# Altium footprint library CapacitoresIntiSat.PCBLIB: 196 footprints (part 2 of 13)
Each footprint in its own frame and in the unit in brackets; x right, y up, seen from the top. Pads: shape width x height; smd on the part's side, far side on the other; paste and mask are expansions set on the pad; w line width, h text height; cw(c..) or ccw(c..) is an arc to the next point about the centre after c.
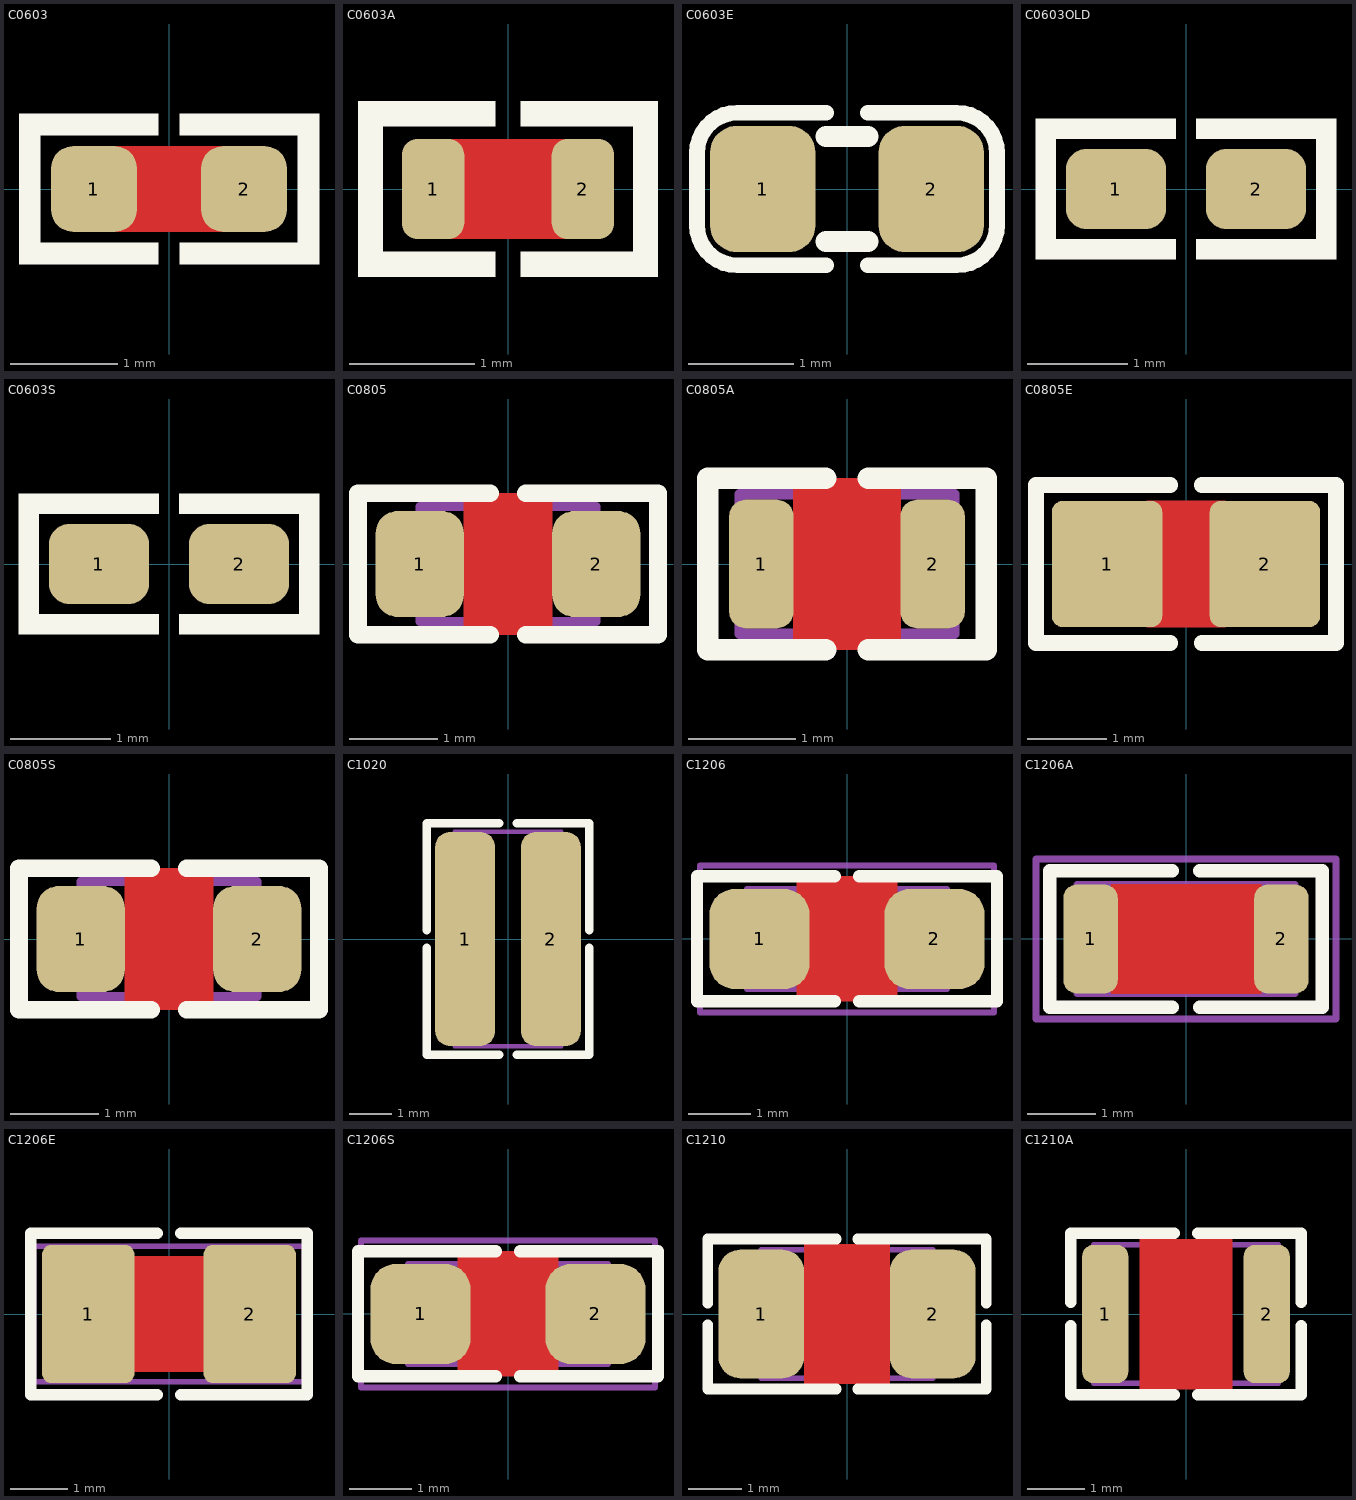
[diagram p1: the footprints below, top view; thin cyan lines are the x and y axes]

## C0603 [mm] "CHIP Capacitor, 1.6X0.8mm, 0603 OPTIMIZED"
height 0.6
pads (2):
  rrect50% 0.8x0.8 smd mask+0.075: 1(-0.7,0) 2(0.7,0)
Top Layer:
  pour cut-out: -0.5,0.4 0.5,0.4 0.5,-0.4 -0.5,-0.4
Top Overlay:
  region: -0.1,-0.5 -0.1,-0.7 -1.4,-0.7 -1.4,-0.5
  region: -0.1,0.5 -0.1,0.7 -1.4,0.7 -1.4,0.5
  region: -1.4,0.7 -1.2,0.7 -1.2,-0.7 -1.4,-0.7
  region: 1.4,0.7 1.2,0.7 1.2,-0.7 1.4,-0.7
  region: 0.1,0.5 0.1,0.7 1.4,0.7 1.4,0.5
  region: 0.1,-0.5 0.1,-0.7 1.4,-0.7 1.4,-0.5
3D body "User Library-CAPC1608X09.step": height 0.9, standoff 0, extent -0.8,-0.4 0.8,0.4

## C0603A [mm] "CHIP Capacitor, 1.6X0.8mm, 0603 for PCBA"
height 0.6
pads (2):
  rrect50% 0.5x0.8 smd mask+0.075: 1(-0.6,0) 2(0.6,0)
Top Layer:
  pour cut-out: -0.5,0.4 0.5,0.4 0.5,-0.4 -0.5,-0.4
Top Overlay:
  region: -1.2,0.7 -1,0.7 -1,-0.7 -1.2,-0.7
  region: -0.1,0.5 -0.1,0.7 -1.2,0.7 -1.2,0.5
  region: -0.1,-0.5 -0.1,-0.7 -1.2,-0.7 -1.2,-0.5
  region: 0.1,-0.5 0.1,-0.7 1.2,-0.7 1.2,-0.5
  region: 0.1,0.5 0.1,0.7 1.2,0.7 1.2,0.5
  region: 1.2,0.7 1,0.7 1,-0.7 1.2,-0.7
3D body "User Library-CAPC1608X09.step": height 0.9, standoff 0, extent -0.8,-0.4 0.8,0.4

## C0603E [mm] "CHIP Capacitor, 1.6X0.8mm, EXPANDED PAD"
height 0.6
pads (2):
  rrect50% 1x1.2 smd mask+0.05: 1(-0.8,0) 2(0.8,0)
Top Overlay:
  lines w0.15: -0.2,-0.725 -1.042,-0.725 cw(c-1.042,-0.342) -1.425,-0.342 -1.425,0.342 cw(c-1.042,0.342) -1.042,0.725 -0.2,0.725 ; 0.2,-0.725 1.042,-0.725 ccw(c1.042,-0.342) 1.425,-0.342 1.425,0.342 ccw(c1.042,0.342) 1.042,0.725 0.2,0.725
  lines w0.2: -0.2,-0.5 0.2,-0.5 ; -0.2,0.5 0.2,0.5
3D body "User Library-CAPC1608X09.step": height 0.9, standoff 0, extent -0.8,-0.4 0.8,0.4

## C0603OLD [mm] "CHIP Capacitor, 1.6X0.8mm, 0603"
height 0.6
pads (2):
  rrect50% 1x0.8 smd mask+0.075: 1(-0.7,0) 2(0.7,0)
Top Overlay:
  region: 0.1,-0.5 0.1,-0.7 1.5,-0.7 1.5,-0.5
  region: 0.1,0.5 0.1,0.7 1.5,0.7 1.5,0.5
  region: 1.5,0.7 1.3,0.7 1.3,-0.7 1.5,-0.7
  region: -1.5,0.7 -1.3,0.7 -1.3,-0.7 -1.5,-0.7
  region: -0.1,0.5 -0.1,0.7 -1.5,0.7 -1.5,0.5
  region: -0.1,-0.5 -0.1,-0.7 -1.5,-0.7 -1.5,-0.5
3D body "User Library-CAPC1608X09.step": height 0.9, standoff 0, extent -0.8,-0.4 0.8,0.4

## C0603S [mm] "CHIP Capacitor, 1.6X0.8mm, 0603, soldered"
height 0.6
pads (2):
  rrect50% 1x0.8 smd mask+0.075: 1(-0.7,0) 2(0.7,0)
Top Overlay:
  region: -0.1,-0.5 -0.1,-0.7 -1.5,-0.7 -1.5,-0.5
  region: -0.1,0.5 -0.1,0.7 -1.5,0.7 -1.5,0.5
  region: -1.5,0.7 -1.3,0.7 -1.3,-0.7 -1.5,-0.7
  region: 1.5,0.7 1.3,0.7 1.3,-0.7 1.5,-0.7
  region: 0.1,0.5 0.1,0.7 1.5,0.7 1.5,0.5
  region: 0.1,-0.5 0.1,-0.7 1.5,-0.7 1.5,-0.5
3D body "c0603_Cap.step": height 0.8, standoff 0, extent -1.23,-0.4 1.23,0.4

## C0805 [mm] "CHIP Capacitor, 2.0X1.3mm, 0805"
pads (2):
  rrect50% 1x1.2 smd mask+0.075: 1(-1,0) 2(1,0)
Top Layer:
  pour cut-out: -0.5,0.8 0.5,0.8 0.5,-0.8 -0.5,-0.8
Top Overlay:
  lines w0.2: -0.2,-0.8 -1.7,-0.8 -1.7,0.8 -0.2,0.8 ; 0.2,-0.8 1.7,-0.8 1.7,0.8 0.2,0.8
Mechanical 13:
  lines w0.1: -1,-0.65 -1,0.65 1,0.65 1,-0.65 -1,-0.65
3D body "User Library-CAPC2013X10.step": height 1, standoff 0, extent -1,-0.625 1,0.625

## C0805A [mm] "CHIP Capacitor, 2.0X1.3mm, 0805, for PCBA"
pads (2):
  rrect50% 0.6x1.2 smd mask+0.075: 1(-0.8,0) 2(0.8,0)
Top Layer:
  pour cut-out: -0.5,0.8 0.5,0.8 0.5,-0.8 -0.5,-0.8
Top Overlay:
  lines w0.2: -0.2,-0.8 -1.3,-0.8 -1.3,0.8 -0.2,0.8 ; 0.2,-0.8 1.3,-0.8 1.3,0.8 0.2,0.8
Mechanical 13:
  lines w0.1: -1,-0.65 1,-0.65 1,0.65 -1,0.65 -1,-0.65
3D body "User Library-CAPC2013X10.step": height 1, standoff 0, extent -1,-0.625 1,0.625

## C0805E [mm] "CHIP Capacitor, 2.0X1.3mm, 0805, EXPANDED PAD"
pads (2):
  rrect20% 1.4x1.6 smd mask+0.1: 1(-1,0) 2(1,0)
Top Layer:
  pour cut-out: -0.5,0.8 0.5,0.8 0.5,-0.8 -0.5,-0.8
Top Overlay:
  lines w0.2: -0.2,-1 -1.9,-1 -1.9,1 -0.2,1 ; 0.2,-1 1.9,-1 1.9,1 0.2,1
3D body "User Library-CAPC2013X10.step": height 1, standoff 0, extent -1,-0.625 1,0.625

## C0805S [mm] "CHIP Capacitor, 2.0X1.3mm, 0805, soldered"
pads (2):
  rrect50% 1x1.2 smd mask+0.075: 1(-1,0) 2(1,0)
Top Layer:
  pour cut-out: -0.5,0.8 0.5,0.8 0.5,-0.8 -0.5,-0.8
Top Overlay:
  lines w0.2: -0.2,-0.8 -1.7,-0.8 -1.7,0.8 -0.2,0.8 ; 0.2,-0.8 1.7,-0.8 1.7,0.8 0.2,0.8
Mechanical 13:
  lines w0.1: -1,-0.65 -1,0.65 1,0.65 1,-0.65 -1,-0.65
3D body "c0805_Cap.step": height 0.8, standoff 0, extent -1.4,-0.625 1.4,0.625

## C1020 [mm] "CHIP Capacitor, 2.50x5.00mm"
height 0.6
pads (2):
  rrect50% 1.4x5 smd mask+0.1: 1(-1,0) 2(1,0)
Top Overlay:
  lines w0.2: -1.9,-0.2 -1.9,-2.7 -0.2,-2.7 ; -1.9,0.2 -1.9,2.7 -0.2,2.7 ; 0.2,-2.7 1.9,-2.7 1.9,-0.2 ; 0.2,2.7 1.9,2.7 1.9,0.2
Mechanical 13:
  lines w0.1: -1.25,-2.5 1.25,-2.5 1.25,2.5 -1.25,2.5 -1.25,-2.5
3D body: height 0.6, standoff 0, extent 0.35,-2.5 1.25,2.5
3D body: height 0.6, standoff 0, extent -1.25,-2.5 -0.35,2.5
3D body: height 0.6, standoff 0, extent -0.35,-2.5 0.35,2.5

## C1206 [mm] "CHIP Capacitor, 3.2X1.6mm, 1206"
height 2
pads (2):
  rrect50% 1.6x1.6 smd mask+0.075: 1(-1.4,0) 2(1.4,0)
Top Layer:
  pour cut-out: -0.8,1 -0.8,-1 0.8,-1 0.8,1
Top Overlay:
  lines w0.2: -0.2,-1 -2.4,-1 -2.4,1 -0.2,1 ; 0.2,-1 2.4,-1 2.4,1 0.2,1
Mechanical 13:
  lines w0.1: -1.6,-0.8 1.6,-0.8 1.6,0.8 -1.6,0.8 -1.6,-0.8
Mechanical 15:
  lines w0.1: -0.5,0 0.5,0 ; 0,-0.5 0,0.5 ; -2.35,-1.175 2.35,-1.175 2.35,1.175 -2.35,1.175 -2.35,-1.175
3D body "User Library-CAPC3216X10.step": height 1, standoff 0, extent -1.6,-0.8 1.6,0.8

## C1206A [mm] "CHIP Capacitor, 3.2X1.6mm, 1206, for PCBA"
height 2
pads (2):
  rrect50% 0.8x1.6 smd mask+0.075: 1(-1.4,0) 2(1.4,0)
Top Layer:
  pour cut-out: -1.1,0.8 -1.1,-0.8 1.1,-0.8 1.1,0.8
Top Overlay:
  lines w0.2: -0.2,-1 -2,-1 -2,1 -0.2,1 ; 0.2,-1 2,-1 2,1 0.2,1
Mechanical 13:
  lines w0.1: -1.6,-0.8 -1.6,0.8 1.6,0.8 1.6,-0.8 -1.6,-0.8
Mechanical 15:
  lines w0.1: -0.5,0 0.5,0 ; 0,-0.5 0,0.5 ; -2.2,-1.175 2.2,-1.175 2.2,1.175 -2.2,1.175 -2.2,-1.175
3D body "User Library-CAPC3216X10.step": height 1, standoff 0, extent -1.6,-0.8 1.6,0.8

## C1206E [mm] "CHIP Capacitor, 3.2X1.6mm, 1206, EXPANDED PAD"
height 2
pads (2):
  rrect20% 1.6x2.4 smd mask+0.075: 1(-1.4,0) 2(1.4,0)
Top Layer:
  pour cut-out: -0.8,1 -0.8,-1 0.8,-1 0.8,1
Top Overlay:
  lines w0.2: -0.2,-1.4 -2.4,-1.4 -2.4,1.4 -0.2,1.4 ; 0.2,-1.4 2.4,-1.4 2.4,1.4 0.2,1.4
Mechanical 13:
  lines w0.1: -1.6,-0.8 -1.6,0.8 1.6,0.8 1.6,-0.8 -1.6,-0.8
Mechanical 15:
  lines w0.1: -0.5,0 0.5,0 ; 0,-0.5 0,0.5 ; -2.35,-1.175 -2.35,1.175 2.35,1.175 2.35,-1.175 -2.35,-1.175
3D body "User Library-CAPC3216X10.step": height 1, standoff 0, extent -1.6,-0.8 1.6,0.8

## C1206S [mm] "CHIP Capacitor, 3.2X1.6mm, 1206, soldered"
height 2
pads (2):
  rrect50% 1.6x1.6 smd mask+0.075: 1(-1.4,0) 2(1.4,0)
Top Layer:
  pour cut-out: -0.8,1 -0.8,-1 0.8,-1 0.8,1
Top Overlay:
  lines w0.2: -0.2,-1 -2.4,-1 -2.4,1 -0.2,1 ; 0.2,-1 2.4,-1 2.4,1 0.2,1
Mechanical 13:
  lines w0.1: -1.6,-0.8 1.6,-0.8 1.6,0.8 -1.6,0.8 -1.6,-0.8
Mechanical 15:
  lines w0.1: -0.5,0 0.5,0 ; 0,-0.5 0,0.5 ; -2.35,-1.175 2.35,-1.175 2.35,1.175 -2.35,1.175 -2.35,-1.175
3D body "c1206_Cap.step": height 1.25, standoff 0, extent -2.27,-0.8 2.27,0.8

## C1210 [mm] "CHIP Capacitor, 3.2X2.5mm, 1210, 3225"
pads (2):
  rrect50% 1.6x2.4 smd mask+0.075: 1(-1.6,0) 2(1.6,0)
Top Layer:
  pour cut-out: -0.8,1.3 -0.8,-1.3 0.8,-1.3 0.8,1.3
Top Overlay:
  lines w0.2: -2.6,-0.2 -2.6,-1.4 -0.2,-1.4 ; -2.6,0.2 -2.6,1.4 -0.2,1.4 ; 0.2,-1.4 2.6,-1.4 2.6,-0.2 ; 0.2,1.4 2.6,1.4 2.6,0.2
Mechanical 13:
  lines w0.1: -1.6,-1.2 1.6,-1.2 1.6,1.2 -1.6,1.2 -1.6,-1.2
3D body "User Library-CAPC3225X10.step": height 1, standoff 0, extent -1.6,-1.25 1.6,1.25

## C1210A [mm] "CHIP Capacitor, 3.2X2.5mm, 1210, for PCBA"
pads (2):
  rrect50% 0.8x2.4 smd mask+0.075: 1(-1.4,0) 2(1.4,0)
Top Layer:
  pour cut-out: -0.8,1.3 -0.8,-1.3 0.8,-1.3 0.8,1.3
Top Overlay:
  lines w0.2: -2,-0.2 -2,-1.4 -0.2,-1.4 ; -2,0.2 -2,1.4 -0.2,1.4 ; 0.2,-1.4 2,-1.4 2,-0.2 ; 0.2,1.4 2,1.4 2,0.2
Mechanical 13:
  lines w0.1: -1.6,-1.2 -1.6,1.2 1.6,1.2 1.6,-1.2 -1.6,-1.2
3D body "User Library-CAPC3225X10.step": height 1, standoff 0, extent -1.6,-1.25 1.6,1.25